# Altium integrated library Agilent Optoelectronic LED.IntLib: 357 symbols (part 5 of 6)
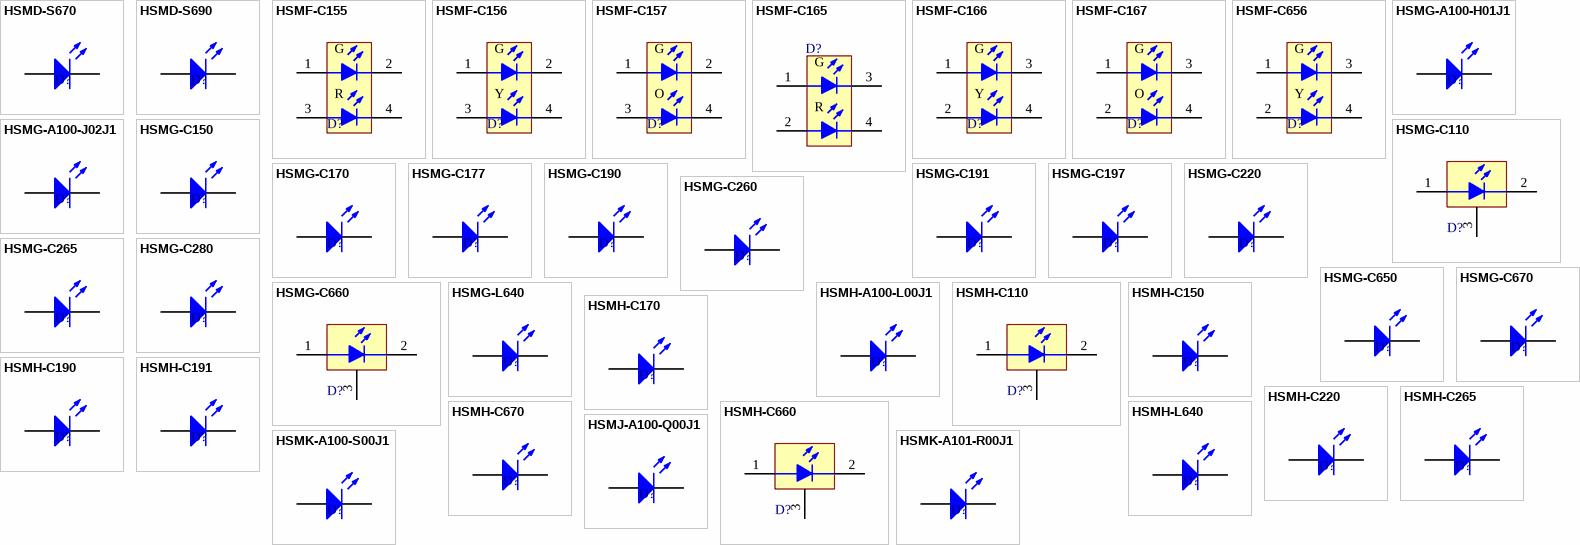
[diagram p12: symbols HSMD-S670 to HSMK-A101-R00J1]

## HSMH-C660
designator D?
Right Angle SMT Chip LED, Red; LuminousIntensity: 6.3mcd (Minimum).; PCB_Layout: Complies with manufacturer's recommendation.; Published: 11-Dec-2002; DatasheetDocument: 19-Oct-2001; PackageDocument: 29-Oct-2001; PackageReference: 3.0X1.0X2.0W; Publisher: Altium Limited; LED_Colour: Red; ComponentLink1Description: Manufacturer Link; ComponentLink1URL: http://www.agilent.com/; ComponentLink2Description: Datasheet; ComponentLink2URL: http://cp.literature.agilent.com/litweb/pdf/5988-4446EN.pdf
footprint 3.0X1.0X2.0W (SM Right-Angle Mount LED; 3 Leads; Body 3.0 x 1.0 x 2.0 mm (LxWxH))
simulation model Agl_HSMHC660 (Diode)
pins: 1 A, 2 K, 3 Mount

## HSMH-C670
designator D?
SMT Top Mount Chip LED, Red; LuminousIntensity: 6.3mcd (Minimum).; PCB_Layout: Complies with manufacturer's recommendation.; Published: 11-Dec-2002; DatasheetDocument: 1-May-2002; PackageDocument: 01-May-2002; PackageReference: 2.0X1.25X1.1; Publisher: Altium Limited; LED_Colour: Red; ComponentLink1Description: Manufacturer Link; ComponentLink1URL: http://www.agilent.com/; ComponentLink2Description: Datasheet; ComponentLink2URL: http://cp.literature.agilent.com/litweb/pdf/5988-2709EN.pdf
footprint 2.0X1.25X1.1 (SM LED; 2 Flat Leads)
simulation model Agl_HSMHC650 (Diode)
signal-integrity model LED
pins: 1 A, 2 K

## HSMH-L640
designator D?
SMT Top Mount Chip LED, Red; LuminousIntensity: 10mcd (Minimum).; PCB_Layout: Complies with manufacturer's recommendation.; Published: 11-Dec-2002; DatasheetDocument: 3-May-2002; PackageDocument: 03-May-2002; PackageReference: 3.0X1.5X1.5; Publisher: Altium Limited; LED_Colour: Red; ComponentLink1Description: Manufacturer Link; ComponentLink1URL: http://www.agilent.com/; ComponentLink2Description: Datasheet; ComponentLink2URL: http://cp.literature.agilent.com/litweb/pdf/5988-6273EN.pdf
footprint 3.0X1.5X1.5 (SM LED; 2 Flat Leads)
simulation model Agl_HSMHC660 (Diode)
signal-integrity model LED
pins: 1 A, 2 K

## HSMJ-A100-Q00J1
designator D?
Surface Mount LED Indicator (Red/Orange); LuminousIntensity: 63mcd (Minimum).; LED_Colour: Red & Orange; PCB_Layout: Complies with manufacturer's recommendation.; Published: 11-Dec-2002; DatasheetDocument: 16-Apr-2002; PackageDocument: 16-Apr-2002; PackageReference: 3.5X2.8X1.9; Publisher: Altium Limited; ComponentLink1Description: Manufacturer Link; ComponentLink1URL: http://www.agilent.com/; ComponentLink2Description: Datasheet; ComponentLink2URL: http://cp.literature.agilent.com/litweb/pdf/5988-6546EN.pdf
footprint 3.5X2.8X1.9 (SM LED; 2 C-Bend Leads; Body 3.5 x 2.8 x 1.9 mm, inc leads (LxWxH typ))
simulation model Agl_HSMAC191 (Diode)
signal-integrity model LED
pins: 1 A, 2 K

## HSMK-A100-S00J1
designator D?
Surface Mount LED Indicator, Cyan; LuminousIntensity: 160mcd (Minimum).; PCB_Layout: Complies with manufacturer's recommendation.; Published: 11-Dec-2002; DatasheetDocument: 16-Apr-2002; PackageDocument: 16-Apr-2002; PackageReference: 3.5X2.8X1.9; Publisher: Altium Limited; LED_Colour: Cyan; ComponentLink1Description: Manufacturer Link; ComponentLink1URL: http://www.agilent.com/; ComponentLink2Description: Datasheet; ComponentLink2URL: http://cp.literature.agilent.com/litweb/pdf/5988-6546EN.pdf
footprint 3.5X2.8X1.9 (SM LED; 2 C-Bend Leads; Body 3.5 x 2.8 x 1.9 mm, inc leads (LxWxH typ))
simulation model Agl_HSMKA100 (Diode)
signal-integrity model LED
pins: 1 A, 2 K

## HSMK-A101-R00J1
designator D?
Surface Mount LED Indicator, Cyan; LuminousIntensity: 100mcd (Minimum).; PCB_Layout: Complies with manufacturer's recommendation.; Published: 11-Dec-2002; DatasheetDocument: 16-Apr-2002; PackageDocument: 16-Apr-2002; PackageReference: 3.5X2.8X1.9; Publisher: Altium Limited; LED_Colour: Cyan; ComponentLink1Description: Manufacturer Link; ComponentLink1URL: http://www.agilent.com/; ComponentLink2Description: Datasheet; ComponentLink2URL: http://cp.literature.agilent.com/litweb/pdf/5988-6546EN.pdf
footprint 3.5X2.8X1.9 (SM LED; 2 C-Bend Leads; Body 3.5 x 2.8 x 1.9 mm, inc leads (LxWxH typ))
simulation model Agl_HSMKA100 (Diode)
signal-integrity model LED
pins: 1 A, 2 K

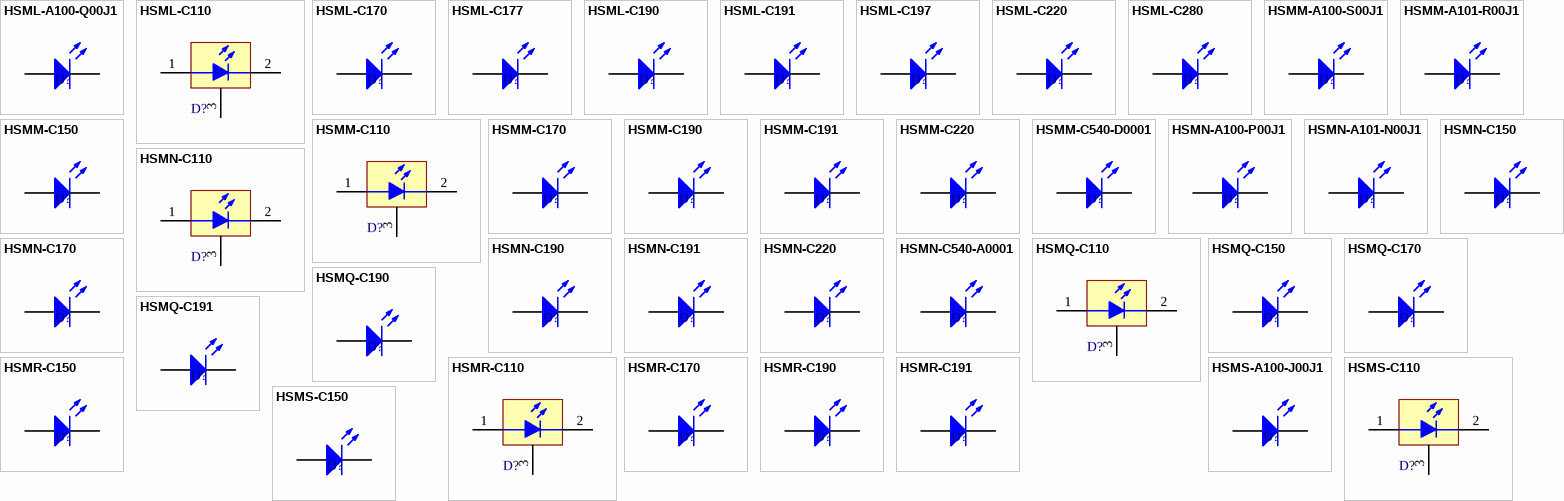
[diagram p7: symbols HSML-A100-Q00J1 to HSMS-C150]

## HSML-A100-Q00J1
designator D?
Surface Mount LED Indicator, Orange; LuminousIntensity: 63mcd (Minimum).; PCB_Layout: Complies with manufacturer's recommendation.; Published: 11-Dec-2002; DatasheetDocument: 16-Apr-2002; PackageDocument: 16-Apr-2002; PackageReference: 3.5X2.8X1.9; Publisher: Altium Limited; LED_Colour: Orange; ComponentLink1Description: Manufacturer Link; ComponentLink1URL: http://www.agilent.com/; ComponentLink2Description: Datasheet; ComponentLink2URL: http://cp.literature.agilent.com/litweb/pdf/5988-6546EN.pdf
footprint 3.5X2.8X1.9 (SM LED; 2 C-Bend Leads; Body 3.5 x 2.8 x 1.9 mm, inc leads (LxWxH typ))
simulation model Agl_HSMAC191 (Diode)
signal-integrity model LED
pins: 1 A, 2 K

## HSML-C110
designator D?
High Performance Chip LED, Orange; LuminousIntensity: 25mcd (Minimum).; PCB_Layout: Complies with manufacturer's recommendation.; Published: 11-Dec-2002; DatasheetDocument: 11-Mar-2002; PackageDocument: 11-Mar-2002; PackageReference: 3.2X1.0X1.5; Publisher: Altium Limited; LED_Colour: Orange; ComponentLink1Description: Manufacturer Link; ComponentLink1URL: http://www.agilent.com/; ComponentLink2Description: Datasheet; ComponentLink2URL: http://cp.literature.agilent.com/litweb/pdf/5988-5891EN.pdf
footprint 3.2X1.0X1.5 (SM Right-Angle Mount LED; 3 Leads; Body 3.2 x 1.0 x 1.5 mm (LxWxH))
simulation model Agl_HSMAC191 (Diode)
pins: 1 A, 2 K, 3 Mount

## HSML-C170
designator D?
High Performance Chip LED, Orange; LuminousIntensity: 25mcd (Minimum).; PCB_Layout: Complies with manufacturer's recommendation.; Published: 11-Dec-2002; DatasheetDocument: 11-Mar-2002; PackageDocument: 29-Oct-2001; PackageReference: 2.0X1.25X0.8; Publisher: Altium Limited; LED_Colour: Orange; ComponentLink1Description: Manufacturer Link; ComponentLink1URL: http://www.agilent.com/; ComponentLink2Description: Datasheet; ComponentLink2URL: http://cp.literature.agilent.com/litweb/pdf/5988-5891EN.pdf
footprint 2.0X1.25X0.8 (SM LED; 2 Flat Leads)
simulation model Agl_HSMAC191 (Diode)
signal-integrity model LED
pins: 1 A, 2 K

## HSML-C177
designator D?
Low Profile Chip LED, Orange; LuminousIntensity: 25mcd (Minimum).; PCB_Layout: Complies with manufacturer's recommendation.; Published: 11-Dec-2002; DatasheetDocument: 27-Jan-2002; PackageDocument: 27-Jan-2002; PackageReference: 2.0X1.25X0.4; Publisher: Altium Limited; LED_Colour: Orange; ComponentLink1Description: Manufacturer Link; ComponentLink1URL: http://www.agilent.com/; ComponentLink2Description: Datasheet; ComponentLink2URL: http://cp.literature.agilent.com/litweb/pdf/5988-5501EN.pdf
footprint 2.0X1.25X0.4 (SM LED; 2 Flat Leads)
simulation model Agl_HSMLC177 (Diode)
signal-integrity model LED
pins: 1 A, 2 K

## HSML-C190
designator D?
High Performance Chip LED, Orange; LuminousIntensity: 25mcd (Minimum).; PCB_Layout: Complies with manufacturer's recommendation.; Published: 11-Dec-2002; DatasheetDocument: 11-Mar-2002; PackageDocument: 11-Mar-2002; PackageReference: 1.6X0.8X0.8; Publisher: Altium Limited; LED_Colour: Orange; ComponentLink1Description: Manufacturer Link; ComponentLink1URL: http://www.agilent.com/; ComponentLink2Description: Datasheet; ComponentLink2URL: http://cp.literature.agilent.com/litweb/pdf/5988-5891EN.pdf
footprint 1.6X0.8X0.8 (SM LED; 2 Flat Leads)
simulation model Agl_HSMAC191 (Diode)
signal-integrity model LED
pins: 1 A, 2 K

## HSML-C191
designator D?
High Performance Chip LED, Orange; LuminousIntensity: 25mcd (Minimum).; PCB_Layout: Complies with manufacturer's recommendation.; Published: 11-Dec-2002; DatasheetDocument: 11-Mar-2002; PackageDocument: 11-Mar-2002; PackageReference: 1.6X0.8X0.6; Publisher: Altium Limited; LED_Colour: Orange; ComponentLink1Description: Manufacturer Link; ComponentLink1URL: http://www.agilent.com/; ComponentLink2Description: Datasheet; ComponentLink2URL: http://cp.literature.agilent.com/litweb/pdf/5988-5891EN.pdf
footprint 1.6X0.8X0.6 (SM LED; 2 Flat Leads)
simulation model Agl_HSMAC191 (Diode)
signal-integrity model LED
pins: 1 A, 2 K

## HSML-C197
designator D?
Low Profile Chip LED, Orange; LuminousIntensity: 25mcd (Minimum).; PCB_Layout: Complies with manufacturer's recommendation.; Published: 11-Dec-2002; DatasheetDocument: 27-Jan-2002; PackageDocument: 27-Jan-2002; PackageReference: 1.6X0.8X0.4; Publisher: Altium Limited; LED_Colour: Orange; ComponentLink1Description: Manufacturer Link; ComponentLink1URL: http://www.agilent.com/; ComponentLink2Description: Datasheet; ComponentLink2URL: http://cp.literature.agilent.com/litweb/pdf/5988-5501EN.pdf
footprint 1.6X0.8X0.4 (SM LED; 2 Flat Leads)
simulation model Agl_HSMLC177 (Diode)
signal-integrity model LED
pins: 1 A, 2 K

## HSML-C220
designator D?
High Performance Chip LED, Orange; LuminousIntensity: 63mcd (Minimum).; PCB_Layout: Complies with manufacturer's recommendation.; Published: 11-Dec-2002; DatasheetDocument: 30-Apr-2002; PackageDocument: 30-Apr-2002; PackageReference: 2.0X1.25X1.2; Publisher: Altium Limited; LED_Colour: Orange; ComponentLink1Description: Manufacturer Link; ComponentLink1URL: http://www.agilent.com/; ComponentLink2Description: Datasheet; ComponentLink2URL: http://cp.literature.agilent.com/litweb/pdf/5988-6549EN.pdf
footprint 2.0X1.25X1.2 (SM LED; 2 Flat Leads)
simulation model Agl_HSMLC220 (Diode)
signal-integrity model LED
pins: 1 A, 2 K

## HSML-C280
designator D?
Miniature Chip LED, Orange; LuminousIntensity: 25mcd (Minimum).; PCB_Layout: Complies with manufacturer's recommendation.; Published: 11-Dec-2002; DatasheetDocument: 7-Mar-2002; PackageDocument: 07-Mar-2002; PackageReference: 1.0X0.5X0.4; Publisher: Altium Limited; LED_Colour: Orange; ComponentLink1Description: Manufacturer Link; ComponentLink1URL: http://www.agilent.com/; ComponentLink2Description: Datasheet; ComponentLink2URL: http://cp.literature.agilent.com/litweb/pdf/5988-5890EN.pdf
footprint 1.0X0.5X0.4 (SM LED; 2 Flat Leads)
simulation model Agl_HSMLC177 (Diode)
signal-integrity model LED
pins: 1 A, 2 K

## HSMM-A100-S00J1
designator D?
Surface Mount LED Indicator, Green; LuminousIntensity: 160mcd (Minimum).; PCB_Layout: Complies with manufacturer's recommendation.; Published: 11-Dec-2002; DatasheetDocument: 16-Apr-2002; PackageDocument: 16-Apr-2002; PackageReference: 3.5X2.8X1.9; Publisher: Altium Limited; LED_Colour: Green; ComponentLink1Description: Manufacturer Link; ComponentLink1URL: http://www.agilent.com/; ComponentLink2Description: Datasheet; ComponentLink2URL: http://cp.literature.agilent.com/litweb/pdf/5988-6546EN.pdf
footprint 3.5X2.8X1.9 (SM LED; 2 C-Bend Leads; Body 3.5 x 2.8 x 1.9 mm, inc leads (LxWxH typ))
simulation model Agl_HSMKA100 (Diode)
signal-integrity model LED
pins: 1 A, 2 K

## HSMM-A101-R00J1
designator D?
Surface Mount LED Indicator, Green; LuminousIntensity: 100mcd (Minimum).; PCB_Layout: Complies with manufacturer's recommendation.; Published: 11-Dec-2002; DatasheetDocument: 16-Apr-2002; PackageDocument: 16-Apr-2002; PackageReference: 3.5X2.8X1.9; Publisher: Altium Limited; LED_Colour: Green; ComponentLink1Description: Manufacturer Link; ComponentLink1URL: http://www.agilent.com/; ComponentLink2Description: Datasheet; ComponentLink2URL: http://cp.literature.agilent.com/litweb/pdf/5988-6546EN.pdf
footprint 3.5X2.8X1.9 (SM LED; 2 C-Bend Leads; Body 3.5 x 2.8 x 1.9 mm, inc leads (LxWxH typ))
simulation model Agl_HSMKA100 (Diode)
signal-integrity model LED
pins: 1 A, 2 K

## HSMM-C110
designator D?
High Performance SMT Chip LED, Green; LuminousIntensity: 40mcd (Minimum).; PCB_Layout: Complies with manufacturer's recommendation.; Published: 11-Dec-2002; DatasheetDocument: 11-Mar-2002; PackageDocument: 11-Mar-2002; PackageReference: 3.2X1.0X1.5; Publisher: Altium Limited; LED_Colour: Green; ComponentLink1Description: Manufacturer Link; ComponentLink1URL: http://www.agilent.com/; ComponentLink2Description: Datasheet; ComponentLink2URL: http://cp.literature.agilent.com/litweb/pdf/5988-5213EN.pdf
footprint 3.2X1.0X1.5 (SM Right-Angle Mount LED; 3 Leads; Body 3.2 x 1.0 x 1.5 mm (LxWxH))
simulation model Agl_HSMMC110 (Diode)
pins: 1 A, 2 K, 3 Mount

## HSMM-C150
designator D?
High Performance SMT Chip LED, Green; LuminousIntensity: 40mcd (Minimum).; PCB_Layout: Complies with manufacturer's recommendation.; Published: 11-Dec-2002; DatasheetDocument: 11-Mar-2002; PackageDocument: 26-Feb-2002; PackageReference: 3.2X1.6X1.1; Publisher: Altium Limited; LED_Colour: Green; ComponentLink1Description: Manufacturer Link; ComponentLink1URL: http://www.agilent.com/; ComponentLink2Description: Datasheet; ComponentLink2URL: http://cp.literature.agilent.com/litweb/pdf/5988-5213EN.pdf
footprint 3.2X1.6X1.1 (SM LED; 2 Flat Leads)
simulation model Agl_HSMMC110 (Diode)
signal-integrity model LED
pins: 1 A, 2 K

## HSMM-C170
designator D?
High Performance SMT Chip LED, Green; LuminousIntensity: 40mcd (Minimum).; PCB_Layout: Complies with manufacturer's recommendation.; Published: 11-Dec-2002; DatasheetDocument: 11-Mar-2002; PackageDocument: 29-Oct-2001; PackageReference: 2.0X1.25X0.8; Publisher: Altium Limited; LED_Colour: Green; ComponentLink1Description: Manufacturer Link; ComponentLink1URL: http://www.agilent.com/; ComponentLink2Description: Datasheet; ComponentLink2URL: http://cp.literature.agilent.com/litweb/pdf/5988-5213EN.pdf
footprint 2.0X1.25X0.8 (SM LED; 2 Flat Leads)
simulation model Agl_HSMMC110 (Diode)
signal-integrity model LED
pins: 1 A, 2 K

## HSMM-C190
designator D?
High Performance SMT Chip LED, Green; LuminousIntensity: 40mcd (Minimum).; PCB_Layout: Complies with manufacturer's recommendation.; Published: 11-Dec-2002; DatasheetDocument: 11-Mar-2002; PackageDocument: 11-Mar-2002; PackageReference: 1.6X0.8X0.8; Publisher: Altium Limited; LED_Colour: Green; ComponentLink1Description: Manufacturer Link; ComponentLink1URL: http://www.agilent.com/; ComponentLink2Description: Datasheet; ComponentLink2URL: http://cp.literature.agilent.com/litweb/pdf/5988-5213EN.pdf
footprint 1.6X0.8X0.8 (SM LED; 2 Flat Leads)
simulation model Agl_HSMMC110 (Diode)
signal-integrity model LED
pins: 1 A, 2 K

## HSMM-C191
designator D?
High Performance SMT Chip LED, Green; LuminousIntensity: 40mcd (Minimum).; PCB_Layout: Complies with manufacturer's recommendation.; Published: 11-Dec-2002; DatasheetDocument: 11-Mar-2002; PackageDocument: 11-Mar-2002; PackageReference: 1.6X0.8X0.6; Publisher: Altium Limited; LED_Colour: Green; ComponentLink1Description: Manufacturer Link; ComponentLink1URL: http://www.agilent.com/; ComponentLink2Description: Datasheet; ComponentLink2URL: http://cp.literature.agilent.com/litweb/pdf/5988-5213EN.pdf
footprint 1.6X0.8X0.6 (SM LED; 2 Flat Leads)
simulation model Agl_HSMMC110 (Diode)
signal-integrity model LED
pins: 1 A, 2 K

## HSMM-C220
designator D?
High Performance Chip LED, Green; LuminousIntensity: 63mcd (Minimum).; PCB_Layout: Complies with manufacturer's recommendation.; Published: 11-Dec-2002; DatasheetDocument: 30-Apr-2002; PackageDocument: 30-Apr-2002; PackageReference: 2.0X1.25X1.2; Publisher: Altium Limited; LED_Colour: Green; ComponentLink1Description: Manufacturer Link; ComponentLink1URL: http://www.agilent.com/; ComponentLink2Description: Datasheet; ComponentLink2URL: http://cp.literature.agilent.com/litweb/pdf/5988-6549EN.pdf
footprint 2.0X1.25X1.2 (SM LED; 2 Flat Leads)
simulation model Agl_HSMMC220 (Diode)
signal-integrity model LED
pins: 1 A, 2 K

## HSMM-C540-D0001
designator D?
Top Mount InGaN Green Oval Lens High Brightness; LuminousIntensity: 57mcd (Minimum).; PCB_Layout: Complies with manufacturer's recommendation.; Published: 11-Dec-2002; DatasheetDocument: 7-Mar-2002; PackageDocument: 30-Apr-2002; PackageReference: 2.0X1.25X1.2; Publisher: Altium Limited; LED_Colour: Green; ComponentLink1Description: Manufacturer Link; ComponentLink1URL: http://www.agilent.com/; ComponentLink2Description: Datasheet; ComponentLink2URL: http://cp.literature.agilent.com/litweb/pdf/5988-5794EN.pdf
footprint 2.0X1.25X1.2 (SM LED; 2 Flat Leads)
simulation model Agl_HSMMC540 (Diode)
signal-integrity model LED
pins: 1 A, 2 K

## HSMN-A100-P00J1
designator D?
Surface Mount LED Indicator, Blue; LuminousIntensity: 40mcd (Minimum).; PCB_Layout: Complies with manufacturer's recommendation.; Published: 11-Dec-2002; DatasheetDocument: 16-Apr-2002; PackageDocument: 16-Apr-2002; PackageReference: 3.5X2.8X1.9; Publisher: Altium Limited; LED_Colour: Blue; ComponentLink1Description: Manufacturer Link; ComponentLink1URL: http://www.agilent.com/; ComponentLink2Description: Datasheet; ComponentLink2URL: http://cp.literature.agilent.com/litweb/pdf/5988-6546EN.pdf
footprint 3.5X2.8X1.9 (SM LED; 2 C-Bend Leads; Body 3.5 x 2.8 x 1.9 mm, inc leads (LxWxH typ))
simulation model Agl_HSMKA100 (Diode)
signal-integrity model LED
pins: 1 A, 2 K

## HSMN-A101-N00J1
designator D?
Surface Mount LED Indicator, Blue; LuminousIntensity: 25mcd (Minimum).; PCB_Layout: Complies with manufacturer's recommendation.; Published: 11-Dec-2002; DatasheetDocument: 16-Apr-2002; PackageDocument: 16-Apr-2002; PackageReference: 3.5X2.8X1.9; Publisher: Altium Limited; LED_Colour: Blue; ComponentLink1Description: Manufacturer Link; ComponentLink1URL: http://www.agilent.com/; ComponentLink2Description: Datasheet; ComponentLink2URL: http://cp.literature.agilent.com/litweb/pdf/5988-6546EN.pdf
footprint 3.5X2.8X1.9 (SM LED; 2 C-Bend Leads; Body 3.5 x 2.8 x 1.9 mm, inc leads (LxWxH typ))
simulation model Agl_HSMKA100 (Diode)
signal-integrity model LED
pins: 1 A, 2 K

## HSMN-C110
designator D?
High Performance SMT Chip LED, Blue; LuminousIntensity: 10mcd (Minimum).; PCB_Layout: Complies with manufacturer's recommendation.; Published: 11-Dec-2002; DatasheetDocument: 11-Mar-2002; PackageDocument: 11-Mar-2002; PackageReference: 3.2X1.0X1.5; Publisher: Altium Limited; LED_Colour: Blue; ComponentLink1Description: Manufacturer Link; ComponentLink1URL: http://www.agilent.com/; ComponentLink2Description: Datasheet; ComponentLink2URL: http://cp.literature.agilent.com/litweb/pdf/5988-5213EN.pdf
footprint 3.2X1.0X1.5 (SM Right-Angle Mount LED; 3 Leads; Body 3.2 x 1.0 x 1.5 mm (LxWxH))
simulation model Agl_HSMMC110 (Diode)
pins: 1 A, 2 K, 3 Mount

## HSMN-C150
designator D?
High Performance SMT Chip LED, Blue; LuminousIntensity: 10mcd (Minimum).; PCB_Layout: Complies with manufacturer's recommendation.; Published: 11-Dec-2002; DatasheetDocument: 11-Mar-2002; PackageDocument: 26-Feb-2002; PackageReference: 3.2X1.6X1.1; Publisher: Altium Limited; LED_Colour: Blue; ComponentLink1Description: Manufacturer Link; ComponentLink1URL: http://www.agilent.com/; ComponentLink2Description: Datasheet; ComponentLink2URL: http://cp.literature.agilent.com/litweb/pdf/5988-5213EN.pdf
footprint 3.2X1.6X1.1 (SM LED; 2 Flat Leads)
simulation model Agl_HSMMC110 (Diode)
signal-integrity model LED
pins: 1 A, 2 K

## HSMN-C170
designator D?
High Performance SMT Chip LED, Blue; LuminousIntensity: 10mcd (Minimum).; PCB_Layout: Complies with manufacturer's recommendation.; Published: 11-Dec-2002; DatasheetDocument: 11-Mar-2002; PackageDocument: 29-Oct-2001; PackageReference: 2.0X1.25X0.8; Publisher: Altium Limited; LED_Colour: Blue; ComponentLink1Description: Manufacturer Link; ComponentLink1URL: http://www.agilent.com/; ComponentLink2Description: Datasheet; ComponentLink2URL: http://cp.literature.agilent.com/litweb/pdf/5988-5213EN.pdf
footprint 2.0X1.25X0.8 (SM LED; 2 Flat Leads)
simulation model Agl_HSMMC110 (Diode)
signal-integrity model LED
pins: 1 A, 2 K

## HSMN-C190
designator D?
High Performance SMT Chip LED, Blue; LuminousIntensity: 10mcd (Minimum).; PCB_Layout: Complies with manufacturer's recommendation.; Published: 11-Dec-2002; DatasheetDocument: 11-Mar-2002; PackageDocument: 11-Mar-2002; PackageReference: 1.6X0.8X0.8; Publisher: Altium Limited; LED_Colour: Blue; ComponentLink1Description: Manufacturer Link; ComponentLink1URL: http://www.agilent.com/; ComponentLink2Description: Datasheet; ComponentLink2URL: http://cp.literature.agilent.com/litweb/pdf/5988-5213EN.pdf
footprint 1.6X0.8X0.8 (SM LED; 2 Flat Leads)
simulation model Agl_HSMMC110 (Diode)
signal-integrity model LED
pins: 1 A, 2 K

## HSMN-C191
designator D?
High Performance SMT Chip LED, Blue; LuminousIntensity: 10mcd (Minimum).; PCB_Layout: Complies with manufacturer's recommendation.; Published: 11-Dec-2002; DatasheetDocument: 11-Mar-2002; PackageDocument: 11-Mar-2002; PackageReference: 1.6X0.8X0.6; Publisher: Altium Limited; LED_Colour: Blue; ComponentLink1Description: Manufacturer Link; ComponentLink1URL: http://www.agilent.com/; ComponentLink2Description: Datasheet; ComponentLink2URL: http://cp.literature.agilent.com/litweb/pdf/5988-5213EN.pdf
footprint 1.6X0.8X0.6 (SM LED; 2 Flat Leads)
simulation model Agl_HSMMC110 (Diode)
signal-integrity model LED
pins: 1 A, 2 K

## HSMN-C220
designator D?
High Performance Chip LED, Blue; LuminousIntensity: 25mcd (Minimum).; PCB_Layout: Complies with manufacturer's recommendation.; Published: 11-Dec-2002; DatasheetDocument: 30-Apr-2002; PackageDocument: 30-Apr-2002; PackageReference: 2.0X1.25X1.2; Publisher: Altium Limited; LED_Colour: Blue; ComponentLink1Description: Manufacturer Link; ComponentLink1URL: http://www.agilent.com/; ComponentLink2Description: Datasheet; ComponentLink2URL: http://cp.literature.agilent.com/litweb/pdf/5988-6549EN.pdf
footprint 2.0X1.25X1.2 (SM LED; 2 Flat Leads)
simulation model Agl_HSMNC220 (Diode)
signal-integrity model LED
pins: 1 A, 2 K

## HSMN-C540-A0001
designator D?
Top Mount InGaN Blue Oval Lens High Brightness; LuminousIntensity: 26mcd (Minimum).; PCB_Layout: Complies with manufacturer's recommendation.; Published: 11-Dec-2002; DatasheetDocument: 7-Mar-2002; PackageDocument: 30-Apr-2002; PackageReference: 2.0X1.25X1.2; Publisher: Altium Limited; LED_Colour: Blue; ComponentLink1Description: Manufacturer Link; ComponentLink1URL: http://www.agilent.com/; ComponentLink2Description: Datasheet; ComponentLink2URL: http://cp.literature.agilent.com/litweb/pdf/5988-5794EN.pdf
footprint 2.0X1.25X1.2 (SM LED; 2 Flat Leads)
simulation model Agl_HSMMC540 (Diode)
signal-integrity model LED
pins: 1 A, 2 K

## HSMQ-C110
designator D?
Right Angle SMT Chip LED, Green; LuminousIntensity: 40mcd (Minimum).; PCB_Layout: Complies with manufacturer's recommendation.; Published: 11-Dec-2002; DatasheetDocument: 6-Apr-2002; PackageDocument: 11-Mar-2002; PackageReference: 3.2X1.0X1.5; Publisher: Altium Limited; LED_Colour: Green; ComponentLink1Description: Manufacturer Link; ComponentLink1URL: http://www.agilent.com/; ComponentLink2Description: Datasheet; ComponentLink2URL: http://cp.literature.agilent.com/litweb/pdf/5988-4832EN.pdf
footprint 3.2X1.0X1.5 (SM Right-Angle Mount LED; 3 Leads; Body 3.2 x 1.0 x 1.5 mm (LxWxH))
simulation model Agl_HSMQC110 (Diode)
pins: 1 A, 2 K, 3 Mount

## HSMQ-C150
designator D?
SMT Top Mount Chip LED, Green; LuminousIntensity: 40mcd (Minimum).; PCB_Layout: Complies with manufacturer's recommendation.; Published: 11-Dec-2002; DatasheetDocument: 6-Apr-2002; PackageDocument: 26-Feb-2002; PackageReference: 3.2X1.6X1.1; Publisher: Altium Limited; LED_Colour: Green; ComponentLink1Description: Manufacturer Link; ComponentLink1URL: http://www.agilent.com/; ComponentLink2Description: Datasheet; ComponentLink2URL: http://cp.literature.agilent.com/litweb/pdf/5988-4832EN.pdf
footprint 3.2X1.6X1.1 (SM LED; 2 Flat Leads)
simulation model Agl_HSMQC110 (Diode)
signal-integrity model LED
pins: 1 A, 2 K

## HSMQ-C170
designator D?
SMT Top Mount Chip LED, Green; LuminousIntensity: 40mcd (Minimum).; PCB_Layout: Complies with manufacturer's recommendation.; Published: 11-Dec-2002; DatasheetDocument: 6-Apr-2002; PackageDocument: 29-Oct-2001; PackageReference: 2.0X1.25X0.8; Publisher: Altium Limited; LED_Colour: Green; ComponentLink1Description: Manufacturer Link; ComponentLink1URL: http://www.agilent.com/; ComponentLink2Description: Datasheet; ComponentLink2URL: http://cp.literature.agilent.com/litweb/pdf/5988-4832EN.pdf
footprint 2.0X1.25X0.8 (SM LED; 2 Flat Leads)
simulation model Agl_HSMQC170 (Diode)
signal-integrity model LED
pins: 1 A, 2 K

## HSMQ-C190
designator D?
SMT Top Mount Chip LED, Green; LuminousIntensity: 40mcd (Minimum).; PCB_Layout: Complies with manufacturer's recommendation.; Published: 11-Dec-2002; DatasheetDocument: 6-Apr-2002; PackageDocument: 11-Mar-2002; PackageReference: 1.6X0.8X0.8; Publisher: Altium Limited; LED_Colour: Green; ComponentLink1Description: Manufacturer Link; ComponentLink1URL: http://www.agilent.com/; ComponentLink2Description: Datasheet; ComponentLink2URL: http://cp.literature.agilent.com/litweb/pdf/5988-4832EN.pdf
footprint 1.6X0.8X0.8 (SM LED; 2 Flat Leads)
simulation model Agl_HSMQC170 (Diode)
signal-integrity model LED
pins: 1 A, 2 K

## HSMQ-C191
designator D?
Top Mount Low Profile Chip LED, Green; LuminousIntensity: 40mcd (Minimum).; PCB_Layout: Complies with manufacturer's recommendation.; Published: 11-Dec-2002; DatasheetDocument: 6-Apr-2002; PackageDocument: 11-Mar-2002; PackageReference: 1.6X0.8X0.6; Publisher: Altium Limited; LED_Colour: Green; ComponentLink1Description: Manufacturer Link; ComponentLink1URL: http://www.agilent.com/; ComponentLink2Description: Datasheet; ComponentLink2URL: http://cp.literature.agilent.com/litweb/pdf/5988-4832EN.pdf
footprint 1.6X0.8X0.6 (SM LED; 2 Flat Leads)
simulation model Agl_HSMQC170 (Diode)
signal-integrity model LED
pins: 1 A, 2 K

## HSMR-C110
designator D?
Right Angle SMT Chip LED, Blue; LuminousIntensity: 16mcd (Minimum).; PCB_Layout: Complies with manufacturer's recommendation.; Published: 11-Dec-2002; DatasheetDocument: 6-Apr-2002; PackageDocument: 11-Mar-2002; PackageReference: 3.2X1.0X1.5; Publisher: Altium Limited; LED_Colour: Blue; ComponentLink1Description: Manufacturer Link; ComponentLink1URL: http://www.agilent.com/; ComponentLink2Description: Datasheet; ComponentLink2URL: http://cp.literature.agilent.com/litweb/pdf/5988-4832EN.pdf
footprint 3.2X1.0X1.5 (SM Right-Angle Mount LED; 3 Leads; Body 3.2 x 1.0 x 1.5 mm (LxWxH))
simulation model Agl_HSMQC110 (Diode)
pins: 1 A, 2 K, 3 Mount

## HSMR-C150
designator D?
SMT Top Mount Chip LED, Blue; LuminousIntensity: 16mcd (Minimum).; PCB_Layout: Complies with manufacturer's recommendation.; Published: 11-Dec-2002; DatasheetDocument: 6-Apr-2002; PackageDocument: 26-Feb-2002; PackageReference: 3.2X1.6X1.1; Publisher: Altium Limited; LED_Colour: Blue; ComponentLink1Description: Manufacturer Link; ComponentLink1URL: http://www.agilent.com/; ComponentLink2Description: Datasheet; ComponentLink2URL: http://cp.literature.agilent.com/litweb/pdf/5988-4832EN.pdf
footprint 3.2X1.6X1.1 (SM LED; 2 Flat Leads)
simulation model Agl_HSMQC110 (Diode)
signal-integrity model LED
pins: 1 A, 2 K

## HSMR-C170
designator D?
SMT Top Mount Chip LED, Blue; LuminousIntensity: 16mcd (Minimum).; PCB_Layout: Complies with manufacturer's recommendation.; Published: 11-Dec-2002; DatasheetDocument: 6-Apr-2002; PackageDocument: 29-Oct-2001; PackageReference: 2.0X1.25X0.8; Publisher: Altium Limited; LED_Colour: Blue; ComponentLink1Description: Manufacturer Link; ComponentLink1URL: http://www.agilent.com/; ComponentLink2Description: Datasheet; ComponentLink2URL: http://cp.literature.agilent.com/litweb/pdf/5988-4832EN.pdf
footprint 2.0X1.25X0.8 (SM LED; 2 Flat Leads)
simulation model Agl_HSMQC170 (Diode)
signal-integrity model LED
pins: 1 A, 2 K

## HSMR-C190
designator D?
SMT Top Mount Chip LED, Blue; LuminousIntensity: 16mcd (Minimum).; PCB_Layout: Complies with manufacturer's recommendation.; Published: 11-Dec-2002; DatasheetDocument: 6-Apr-2002; PackageDocument: 11-Mar-2002; PackageReference: 1.6X0.8X0.8; Publisher: Altium Limited; LED_Colour: Blue; ComponentLink1Description: Manufacturer Link; ComponentLink1URL: http://www.agilent.com/; ComponentLink2Description: Datasheet; ComponentLink2URL: http://cp.literature.agilent.com/litweb/pdf/5988-4832EN.pdf
footprint 1.6X0.8X0.8 (SM LED; 2 Flat Leads)
simulation model Agl_HSMQC170 (Diode)
signal-integrity model LED
pins: 1 A, 2 K

## HSMR-C191
designator D?
Top Mount Low Profile Chip LED, Blue; LuminousIntensity: 16mcd (Minimum).; PCB_Layout: Complies with manufacturer's recommendation.; Published: 11-Dec-2002; DatasheetDocument: 6-Apr-2002; PackageDocument: 11-Mar-2002; PackageReference: 1.6X0.8X0.6; Publisher: Altium Limited; LED_Colour: Blue; ComponentLink1Description: Manufacturer Link; ComponentLink1URL: http://www.agilent.com/; ComponentLink2Description: Datasheet; ComponentLink2URL: http://cp.literature.agilent.com/litweb/pdf/5988-4832EN.pdf
footprint 1.6X0.8X0.6 (SM LED; 2 Flat Leads)
simulation model Agl_HSMQC170 (Diode)
signal-integrity model LED
pins: 1 A, 2 K

## HSMS-A100-J00J1
designator D?
Surface Mount LED Indicator, Red; LuminousIntensity: 4mcd (Minimum).; PCB_Layout: Complies with manufacturer's recommendation.; Published: 11-Dec-2002; DatasheetDocument: 16-Apr-2002; PackageDocument: 16-Apr-2002; PackageReference: 3.5X2.8X1.9; Publisher: Altium Limited; LED_Colour: Red; ComponentLink1Description: Manufacturer Link; ComponentLink1URL: http://www.agilent.com/; ComponentLink2Description: Datasheet; ComponentLink2URL: http://cp.literature.agilent.com/litweb/pdf/5988-6546EN.pdf
footprint 3.5X2.8X1.9 (SM LED; 2 C-Bend Leads; Body 3.5 x 2.8 x 1.9 mm, inc leads (LxWxH typ))
simulation model Agl_HSMDC110 (Diode)
signal-integrity model LED
pins: 1 A, 2 K

## HSMS-C110
designator D?
Surface Mount Chip LED, Red; LuminousIntensity: 2.5mcd (Minimum).; PCB_Layout: Complies with manufacturer's recommendation.; Published: 11-Dec-2002; DatasheetDocument: 30-Apr-2002; PackageDocument: 11-Mar-2002; PackageReference: 3.2X1.0X1.5; Publisher: Altium Limited; LED_Colour: Red; ComponentLink1Description: Manufacturer Link; ComponentLink1URL: http://www.agilent.com/; ComponentLink2Description: Datasheet; ComponentLink2URL: http://cp.literature.agilent.com/litweb/pdf/5988-6271EN.pdf
footprint 3.2X1.0X1.5 (SM Right-Angle Mount LED; 3 Leads; Body 3.2 x 1.0 x 1.5 mm (LxWxH))
simulation model Agl_HSMSC110 (Diode)
pins: 1 A, 2 K, 3 Mount

## HSMS-C150
designator D?
Surface Mount Chip LED, Red; LuminousIntensity: 2.5mcd (Minimum).; PCB_Layout: Complies with manufacturer's recommendation.; Published: 11-Dec-2002; DatasheetDocument: 30-Apr-2002; PackageDocument: 26-Feb-2002; PackageReference: 3.2X1.6X1.1; Publisher: Altium Limited; LED_Colour: Red; ComponentLink1Description: Manufacturer Link; ComponentLink1URL: http://www.agilent.com/; ComponentLink2Description: Datasheet; ComponentLink2URL: http://cp.literature.agilent.com/litweb/pdf/5988-6271EN.pdf
footprint 3.2X1.6X1.1 (SM LED; 2 Flat Leads)
simulation model Agl_HSMSC110 (Diode)
signal-integrity model LED
pins: 1 A, 2 K

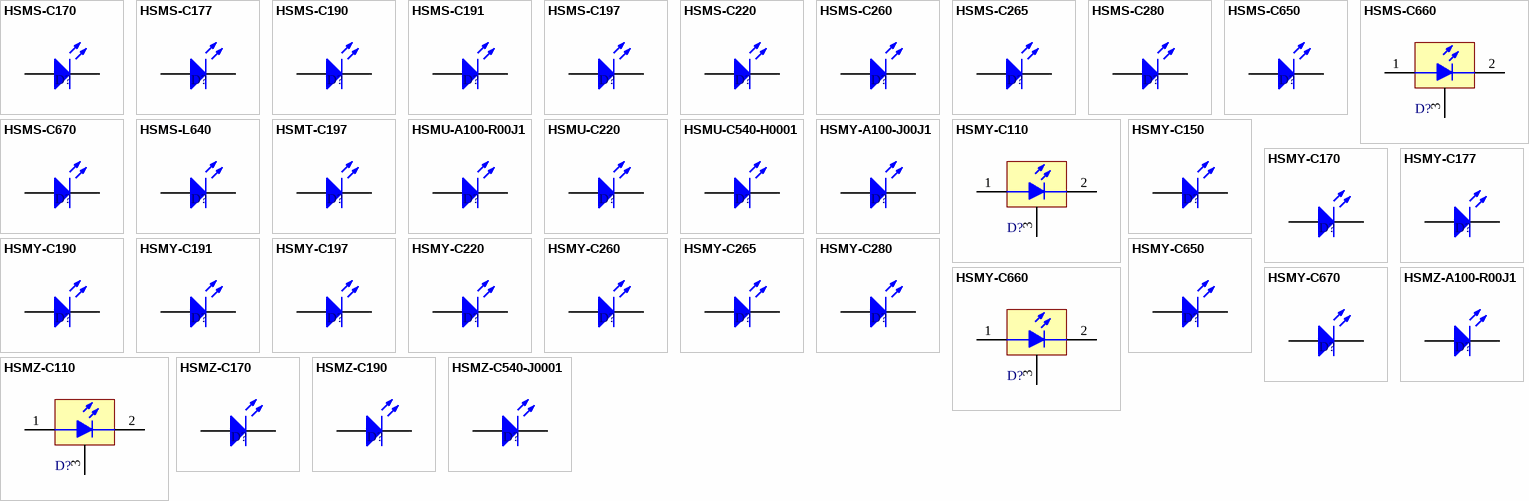
[diagram p8: symbols HSMS-C170 to HSMZ-C540-J0001]

## HSMS-C170
designator D?
Surface Mount Chip LED, Red; LuminousIntensity: 2.5mcd (Minimum).; PCB_Layout: Complies with manufacturer's recommendation.; Published: 11-Dec-2002; DatasheetDocument: 30-Apr-2002; PackageDocument: 29-Oct-2001; PackageReference: 2.0X1.25X0.8; Publisher: Altium Limited; LED_Colour: Red; ComponentLink1Description: Manufacturer Link; ComponentLink1URL: http://www.agilent.com/; ComponentLink2Description: Datasheet; ComponentLink2URL: http://cp.literature.agilent.com/litweb/pdf/5988-6271EN.pdf
footprint 2.0X1.25X0.8 (SM LED; 2 Flat Leads)
simulation model Agl_HSMSC110 (Diode)
signal-integrity model LED
pins: 1 A, 2 K

## HSMS-C177
designator D?
Low Profile Chip LED, Red; LuminousIntensity: 2.5mcd (Minimum).; PCB_Layout: Complies with manufacturer's recommendation.; Published: 11-Dec-2002; DatasheetDocument: 27-Jan-2002; PackageDocument: 27-Jan-2002; PackageReference: 2.0X1.25X0.4; Publisher: Altium Limited; LED_Colour: Red; ComponentLink1Description: Manufacturer Link; ComponentLink1URL: http://www.agilent.com/; ComponentLink2Description: Datasheet; ComponentLink2URL: http://cp.literature.agilent.com/litweb/pdf/5988-5501EN.pdf
footprint 2.0X1.25X0.4 (SM LED; 2 Flat Leads)
simulation model Agl_HSMSC110 (Diode)
signal-integrity model LED
pins: 1 A, 2 K

## HSMS-C190
designator D?
Surface Mount Chip LED, Red; LuminousIntensity: 2.5mcd (Minimum).; PCB_Layout: Complies with manufacturer's recommendation.; Published: 11-Dec-2002; DatasheetDocument: 30-Apr-2002; PackageDocument: 11-Mar-2002; PackageReference: 1.6X0.8X0.8; Publisher: Altium Limited; LED_Colour: Red; ComponentLink1Description: Manufacturer Link; ComponentLink1URL: http://www.agilent.com/; ComponentLink2Description: Datasheet; ComponentLink2URL: http://cp.literature.agilent.com/litweb/pdf/5988-6271EN.pdf
footprint 1.6X0.8X0.8 (SM LED; 2 Flat Leads)
simulation model Agl_HSMSC110 (Diode)
signal-integrity model LED
pins: 1 A, 2 K

## HSMS-C191
designator D?
Low Profile Chip LED, Red; LuminousIntensity: 2.5mcd (Minimum).; PCB_Layout: Complies with manufacturer's recommendation.; Published: 11-Dec-2002; DatasheetDocument: 16-Apr-2002; PackageDocument: 11-Mar-2002; PackageReference: 1.6X0.8X0.6; Publisher: Altium Limited; LED_Colour: Red; ComponentLink1Description: Manufacturer Link; ComponentLink1URL: http://www.agilent.com/; ComponentLink2Description: Datasheet; ComponentLink2URL: http://cp.literature.agilent.com/litweb/pdf/5988-6172EN.pdf
footprint 1.6X0.8X0.6 (SM LED; 2 Flat Leads)
simulation model Agl_HSMSC110 (Diode)
signal-integrity model LED
pins: 1 A, 2 K

## HSMS-C197
designator D?
Low Profile Chip LED, Red; LuminousIntensity: 2.5mcd (Minimum).; PCB_Layout: Complies with manufacturer's recommendation.; Published: 11-Dec-2002; DatasheetDocument: 27-Jan-2002; PackageDocument: 27-Jan-2002; PackageReference: 1.6X0.8X0.4; Publisher: Altium Limited; LED_Colour: Red; ComponentLink1Description: Manufacturer Link; ComponentLink1URL: http://www.agilent.com/; ComponentLink2Description: Datasheet; ComponentLink2URL: http://cp.literature.agilent.com/litweb/pdf/5988-5501EN.pdf
footprint 1.6X0.8X0.4 (SM LED; 2 Flat Leads)
simulation model Agl_HSMSC110 (Diode)
signal-integrity model LED
pins: 1 A, 2 K

## HSMS-C220
designator D?
High Performance Chip LED, Red; LuminousIntensity: 6.3mcd (Minimum).; PCB_Layout: Complies with manufacturer's recommendation.; Published: 11-Dec-2002; DatasheetDocument: 30-Apr-2002; PackageDocument: 30-Apr-2002; PackageReference: 2.0X1.25X1.2; Publisher: Altium Limited; LED_Colour: Red; ComponentLink1Description: Manufacturer Link; ComponentLink1URL: http://www.agilent.com/; ComponentLink2Description: Datasheet; ComponentLink2URL: http://cp.literature.agilent.com/litweb/pdf/5988-6549EN.pdf
footprint 2.0X1.25X1.2 (SM LED; 2 Flat Leads)
simulation model Agl_HSMDC650 (Diode)
signal-integrity model LED
pins: 1 A, 2 K

## HSMS-C260
designator D?
Reverse Mount Chip LED, Red; LuminousIntensity: 2.5mcd (Minimum).; PCB_Layout: Complies with manufacturer's recommendation.; DrillSize: Nominal, Rounded to nearest 0.05mm; Published: 11-Dec-2002; DatasheetDocument: 15-Apr-2002; PackageDocument: 15-Apr-2002; PackageReference: 3.4X1.25X1.1; Publisher: Altium Limited; LED_Colour: Red; ComponentLink1Description: Manufacturer Link; ComponentLink1URL: http://www.agilent.com/; ComponentLink2Description: Datasheet; ComponentLink2URL: http://cp.literature.agilent.com/litweb/pdf/5988-6269EN.pdf
footprint 3.4X1.25X1.1 (SM Reverse Mount LED; 2 Flat Leads)
simulation model Agl_HSMSC260 (Diode)
signal-integrity model LED
pins: 1 A, 2 K

## HSMS-C265
designator D?
Reverse Mount Chip LED, Red; LuminousIntensity: 2.5mcd (Minimum).; PCB_Layout: Complies with manufacturer's recommendation.; DrillSize: Nominal, Rounded to nearest 0.05mm; Published: 11-Dec-2002; DatasheetDocument: 18-Apr-2002; PackageDocument: 15-Apr-2002; PackageReference: 3.4X1.25X1.1; Publisher: Altium Limited; LED_Colour: Red; ComponentLink1Description: Manufacturer Link; ComponentLink1URL: http://www.agilent.com/; ComponentLink2Description: Datasheet; ComponentLink2URL: http://cp.literature.agilent.com/litweb/pdf/5988-6270EN.pdf
footprint 3.4X1.25X1.1 (SM Reverse Mount LED; 2 Flat Leads)
simulation model Agl_HSMSC265 (Diode)
signal-integrity model LED
pins: 1 A, 2 K

## HSMS-C280
designator D?
Miniature Chip LED, Red; LuminousIntensity: 2.5mcd (Minimum).; PCB_Layout: Complies with manufacturer's recommendation.; Published: 11-Dec-2002; DatasheetDocument: 7-Mar-2002; PackageDocument: 07-Mar-2002; PackageReference: 1.0X0.5X0.4; Publisher: Altium Limited; LED_Colour: Red; ComponentLink1Description: Manufacturer Link; ComponentLink1URL: http://www.agilent.com/; ComponentLink2Description: Datasheet; ComponentLink2URL: http://cp.literature.agilent.com/litweb/pdf/5988-5890EN.pdf
footprint 1.0X0.5X0.4 (SM LED; 2 Flat Leads)
simulation model Agl_HSMSC110 (Diode)
signal-integrity model LED
pins: 1 A, 2 K

## HSMS-C650
designator D?
SMT Top Mount Chip LED, Red; LuminousIntensity: 1.6mcd (Minimum).; PCB_Layout: Complies with manufacturer's recommendation.; Published: 11-Dec-2002; DatasheetDocument: 1-May-2002; PackageDocument: 26-Feb-2002; PackageReference: 3.2X1.6X1.1; Publisher: Altium Limited; LED_Colour: Red; ComponentLink1Description: Manufacturer Link; ComponentLink1URL: http://www.agilent.com/; ComponentLink2Description: Datasheet; ComponentLink2URL: http://cp.literature.agilent.com/litweb/pdf/5988-2709EN.pdf
footprint 3.2X1.6X1.1 (SM LED; 2 Flat Leads)
simulation model Agl_HSMSC650 (Diode)
signal-integrity model LED
pins: 1 A, 2 K

## HSMS-C660
designator D?
Right Angle SMT Chip LED, Red; LuminousIntensity: 1.6mcd (Minimum).; PCB_Layout: Complies with manufacturer's recommendation.; Published: 11-Dec-2002; DatasheetDocument: 19-Oct-2001; PackageDocument: 29-Oct-2001; PackageReference: 3.0X1.0X2.0W; Publisher: Altium Limited; LED_Colour: Red; ComponentLink1Description: Manufacturer Link; ComponentLink1URL: http://www.agilent.com/; ComponentLink2Description: Datasheet; ComponentLink2URL: http://cp.literature.agilent.com/litweb/pdf/5988-4446EN.pdf
footprint 3.0X1.0X2.0W (SM Right-Angle Mount LED; 3 Leads; Body 3.0 x 1.0 x 2.0 mm (LxWxH))
simulation model Agl_HSMSC650 (Diode)
pins: 1 A, 2 K, 3 Mount

## HSMS-C670
designator D?
SMT Top Mount Chip LED, Red; LuminousIntensity: 1.6mcd (Minimum).; PCB_Layout: Complies with manufacturer's recommendation.; Published: 11-Dec-2002; DatasheetDocument: 1-May-2002; PackageDocument: 01-May-2002; PackageReference: 2.0X1.25X1.1; Publisher: Altium Limited; LED_Colour: Red; ComponentLink1Description: Manufacturer Link; ComponentLink1URL: http://www.agilent.com/; ComponentLink2Description: Datasheet; ComponentLink2URL: http://cp.literature.agilent.com/litweb/pdf/5988-2709EN.pdf
footprint 2.0X1.25X1.1 (SM LED; 2 Flat Leads)
simulation model Agl_HSMSC650 (Diode)
signal-integrity model LED
pins: 1 A, 2 K

## HSMS-L640
designator D?
SMT Top Mount Chip LED, Red; LuminousIntensity: 2.5mcd (Minimum).; PCB_Layout: Complies with manufacturer's recommendation.; Published: 11-Dec-2002; DatasheetDocument: 3-May-2002; PackageDocument: 03-May-2002; PackageReference: 3.0X1.5X1.5; Publisher: Altium Limited; LED_Colour: Red; ComponentLink1Description: Manufacturer Link; ComponentLink1URL: http://www.agilent.com/; ComponentLink2Description: Datasheet; ComponentLink2URL: http://cp.literature.agilent.com/litweb/pdf/5988-6273EN.pdf
footprint 3.0X1.5X1.5 (SM LED; 2 Flat Leads)
simulation model Agl_HSMSC650 (Diode)
signal-integrity model LED
pins: 1 A, 2 K

## HSMT-C197
designator D?
Low Profile Chip LED, Red; LuminousIntensity: 15mcd (Minimum).; PCB_Layout: Complies with manufacturer's recommendation.; Published: 11-Dec-2002; DatasheetDocument: 27-Jan-2002; PackageDocument: 27-Jan-2002; PackageReference: 1.6X0.8X0.4; Publisher: Altium Limited; LED_Colour: Red; ComponentLink1Description: Manufacturer Link; ComponentLink1URL: http://www.agilent.com/; ComponentLink2Description: Datasheet; ComponentLink2URL: http://cp.literature.agilent.com/litweb/pdf/5988-5501EN.pdf
footprint 1.6X0.8X0.4 (SM LED; 2 Flat Leads)
simulation model Agl_HSMCC177 (Diode)
signal-integrity model LED
pins: 1 A, 2 K

## HSMU-A100-R00J1
designator D?
Surface Mount LED Indicator, Amber; LuminousIntensity: 100mcd (Minimum).; PCB_Layout: Complies with manufacturer's recommendation.; Published: 11-Dec-2002; DatasheetDocument: 16-Apr-2002; PackageDocument: 16-Apr-2002; PackageReference: 3.5X2.8X1.9; Publisher: Altium Limited; LED_Colour: Amber; ComponentLink1Description: Manufacturer Link; ComponentLink1URL: http://www.agilent.com/; ComponentLink2Description: Datasheet; ComponentLink2URL: http://cp.literature.agilent.com/litweb/pdf/5988-6546EN.pdf
footprint 3.5X2.8X1.9 (SM LED; 2 C-Bend Leads; Body 3.5 x 2.8 x 1.9 mm, inc leads (LxWxH typ))
simulation model Agl_HSMDC110 (Diode)
signal-integrity model LED
pins: 1 A, 2 K

## HSMU-C220
designator D?
High Performance Chip LED, Amber; LuminousIntensity: 100mcd (Minimum).; PCB_Layout: Complies with manufacturer's recommendation.; Published: 11-Dec-2002; DatasheetDocument: 30-Apr-2002; PackageDocument: 30-Apr-2002; PackageReference: 2.0X1.25X1.2; Publisher: Altium Limited; LED_Colour: Amber; ComponentLink1Description: Manufacturer Link; ComponentLink1URL: http://www.agilent.com/; ComponentLink2Description: Datasheet; ComponentLink2URL: http://cp.literature.agilent.com/litweb/pdf/5988-6549EN.pdf
footprint 2.0X1.25X1.2 (SM LED; 2 Flat Leads)
simulation model Agl_HSMUC220 (Diode)
signal-integrity model LED
pins: 1 A, 2 K

## HSMU-C540-H0001
designator D?
Top Mount TS AlInGaP Amber Oval Lens High Brightness; LuminousIntensity: 157mcd (Minimum).; PCB_Layout: Complies with manufacturer's recommendation.; Published: 11-Dec-2002; DatasheetDocument: 7-Mar-2002; PackageDocument: 30-Apr-2002; PackageReference: 2.0X1.25X1.2; Publisher: Altium Limited; LED_Colour: Amber; ComponentLink1Description: Manufacturer Link; ComponentLink1URL: http://www.agilent.com/; ComponentLink2Description: Datasheet; ComponentLink2URL: http://cp.literature.agilent.com/litweb/pdf/5988-5794EN.pdf
footprint 2.0X1.25X1.2 (SM LED; 2 Flat Leads)
simulation model Agl_HSMUC540 (Diode)
signal-integrity model LED
pins: 1 A, 2 K

## HSMY-A100-J00J1
designator D?
Surface Mount LED Indicator, Yellow; LuminousIntensity: 4mcd (Minimum).; PCB_Layout: Complies with manufacturer's recommendation.; Published: 11-Dec-2002; DatasheetDocument: 16-Apr-2002; PackageDocument: 16-Apr-2002; PackageReference: 3.5X2.8X1.9; Publisher: Altium Limited; LED_Colour: Yellow; ComponentLink1Description: Manufacturer Link; ComponentLink1URL: http://www.agilent.com/; ComponentLink2Description: Datasheet; ComponentLink2URL: http://cp.literature.agilent.com/litweb/pdf/5988-6546EN.pdf
footprint 3.5X2.8X1.9 (SM LED; 2 C-Bend Leads; Body 3.5 x 2.8 x 1.9 mm, inc leads (LxWxH typ))
simulation model Agl_HSMDC110 (Diode)
signal-integrity model LED
pins: 1 A, 2 K

## HSMY-C110
designator D?
Surface Mount Chip LED, Yellow; LuminousIntensity: 2.5mcd (Minimum).; PCB_Layout: Complies with manufacturer's recommendation.; Published: 11-Dec-2002; DatasheetDocument: 30-Apr-2002; PackageDocument: 11-Mar-2002; PackageReference: 3.2X1.0X1.5; Publisher: Altium Limited; LED_Colour: Yellow; ComponentLink1Description: Manufacturer Link; ComponentLink1URL: http://www.agilent.com/; ComponentLink2Description: Datasheet; ComponentLink2URL: http://cp.literature.agilent.com/litweb/pdf/5988-6271EN.pdf
footprint 3.2X1.0X1.5 (SM Right-Angle Mount LED; 3 Leads; Body 3.2 x 1.0 x 1.5 mm (LxWxH))
simulation model Agl_HSMYC110 (Diode)
pins: 1 A, 2 K, 3 Mount

## HSMY-C150
designator D?
Surface Mount Chip LED, Yellow; LuminousIntensity: 2.5mcd (Minimum).; PCB_Layout: Complies with manufacturer's recommendation.; Published: 11-Dec-2002; DatasheetDocument: 30-Apr-2002; PackageDocument: 26-Feb-2002; PackageReference: 3.2X1.6X1.1; Publisher: Altium Limited; LED_Colour: Yellow; ComponentLink1Description: Manufacturer Link; ComponentLink1URL: http://www.agilent.com/; ComponentLink2Description: Datasheet; ComponentLink2URL: http://cp.literature.agilent.com/litweb/pdf/5988-6271EN.pdf
footprint 3.2X1.6X1.1 (SM LED; 2 Flat Leads)
simulation model Agl_HSMYC110 (Diode)
signal-integrity model LED
pins: 1 A, 2 K

## HSMY-C170
designator D?
Surface Mount Chip LED, Yellow; LuminousIntensity: 2.5mcd (Minimum).; PCB_Layout: Complies with manufacturer's recommendation.; Published: 11-Dec-2002; DatasheetDocument: 30-Apr-2002; PackageDocument: 29-Oct-2001; PackageReference: 2.0X1.25X0.8; Publisher: Altium Limited; LED_Colour: Yellow; ComponentLink1Description: Manufacturer Link; ComponentLink1URL: http://www.agilent.com/; ComponentLink2Description: Datasheet; ComponentLink2URL: http://cp.literature.agilent.com/litweb/pdf/5988-6271EN.pdf
footprint 2.0X1.25X0.8 (SM LED; 2 Flat Leads)
simulation model Agl_HSMYC110 (Diode)
signal-integrity model LED
pins: 1 A, 2 K

## HSMY-C177
designator D?
Low Profile Chip LED, Yellow; LuminousIntensity: 2.5mcd (Minimum).; PCB_Layout: Complies with manufacturer's recommendation.; Published: 11-Dec-2002; DatasheetDocument: 27-Jan-2002; PackageDocument: 27-Jan-2002; PackageReference: 2.0X1.25X0.4; Publisher: Altium Limited; LED_Colour: Yellow; ComponentLink1Description: Manufacturer Link; ComponentLink1URL: http://www.agilent.com/; ComponentLink2Description: Datasheet; ComponentLink2URL: http://cp.literature.agilent.com/litweb/pdf/5988-5501EN.pdf
footprint 2.0X1.25X0.4 (SM LED; 2 Flat Leads)
simulation model Agl_HSMYC110 (Diode)
signal-integrity model LED
pins: 1 A, 2 K

## HSMY-C190
designator D?
Surface Mount Chip LED, Yellow; LuminousIntensity: 2.5mcd (Minimum).; PCB_Layout: Complies with manufacturer's recommendation.; Published: 11-Dec-2002; DatasheetDocument: 30-Apr-2002; PackageDocument: 11-Mar-2002; PackageReference: 1.6X0.8X0.8; Publisher: Altium Limited; LED_Colour: Yellow; ComponentLink1Description: Manufacturer Link; ComponentLink1URL: http://www.agilent.com/; ComponentLink2Description: Datasheet; ComponentLink2URL: http://cp.literature.agilent.com/litweb/pdf/5988-6271EN.pdf
footprint 1.6X0.8X0.8 (SM LED; 2 Flat Leads)
simulation model Agl_HSMYC110 (Diode)
signal-integrity model LED
pins: 1 A, 2 K

## HSMY-C191
designator D?
Low Profile Chip LED, Yellow; LuminousIntensity: 2.5mcd (Minimum).; PCB_Layout: Complies with manufacturer's recommendation.; Published: 11-Dec-2002; DatasheetDocument: 16-Apr-2002; PackageDocument: 11-Mar-2002; PackageReference: 1.6X0.8X0.6; Publisher: Altium Limited; LED_Colour: Yellow; ComponentLink1Description: Manufacturer Link; ComponentLink1URL: http://www.agilent.com/; ComponentLink2Description: Datasheet; ComponentLink2URL: http://cp.literature.agilent.com/litweb/pdf/5988-6172EN.pdf
footprint 1.6X0.8X0.6 (SM LED; 2 Flat Leads)
simulation model Agl_HSMYC110 (Diode)
signal-integrity model LED
pins: 1 A, 2 K

## HSMY-C197
designator D?
Low Profile Chip LED, Yellow; LuminousIntensity: 2.5mcd (Minimum).; PCB_Layout: Complies with manufacturer's recommendation.; Published: 11-Dec-2002; DatasheetDocument: 27-Jan-2002; PackageDocument: 27-Jan-2002; PackageReference: 1.6X0.8X0.4; Publisher: Altium Limited; LED_Colour: Yellow; ComponentLink1Description: Manufacturer Link; ComponentLink1URL: http://www.agilent.com/; ComponentLink2Description: Datasheet; ComponentLink2URL: http://cp.literature.agilent.com/litweb/pdf/5988-5501EN.pdf
footprint 1.6X0.8X0.4 (SM LED; 2 Flat Leads)
simulation model Agl_HSMYC110 (Diode)
signal-integrity model LED
pins: 1 A, 2 K

## HSMY-C220
designator D?
High Performance Chip LED, Yellow; LuminousIntensity: 6.3mcd (Minimum).; PCB_Layout: Complies with manufacturer's recommendation.; Published: 11-Dec-2002; DatasheetDocument: 30-Apr-2002; PackageDocument: 30-Apr-2002; PackageReference: 2.0X1.25X1.2; Publisher: Altium Limited; LED_Colour: Yellow; ComponentLink1Description: Manufacturer Link; ComponentLink1URL: http://www.agilent.com/; ComponentLink2Description: Datasheet; ComponentLink2URL: http://cp.literature.agilent.com/litweb/pdf/5988-6549EN.pdf
footprint 2.0X1.25X1.2 (SM LED; 2 Flat Leads)
simulation model Agl_HSMYC650 (Diode)
signal-integrity model LED
pins: 1 A, 2 K

## HSMY-C260
designator D?
Reverse Mount Chip LED, Yellow; LuminousIntensity: 2.5mcd (Minimum).; PCB_Layout: Complies with manufacturer's recommendation.; DrillSize: Nominal, Rounded to nearest 0.05mm; Published: 11-Dec-2002; DatasheetDocument: 15-Apr-2002; PackageDocument: 15-Apr-2002; PackageReference: 3.4X1.25X1.1; Publisher: Altium Limited; LED_Colour: Yellow; ComponentLink1Description: Manufacturer Link; ComponentLink1URL: http://www.agilent.com/; ComponentLink2Description: Datasheet; ComponentLink2URL: http://cp.literature.agilent.com/litweb/pdf/5988-6269EN.pdf
footprint 3.4X1.25X1.1 (SM Reverse Mount LED; 2 Flat Leads)
simulation model Agl_HSMYC260 (Diode)
signal-integrity model LED
pins: 1 A, 2 K

## HSMY-C265
designator D?
Reverse Mount Chip LED, Yellow; LuminousIntensity: 2.5mcd (Minimum).; PCB_Layout: Complies with manufacturer's recommendation.; DrillSize: Nominal, Rounded to nearest 0.05mm; Published: 11-Dec-2002; DatasheetDocument: 18-Apr-2002; PackageDocument: 15-Apr-2002; PackageReference: 3.4X1.25X1.1; Publisher: Altium Limited; LED_Colour: Yellow; ComponentLink1Description: Manufacturer Link; ComponentLink1URL: http://www.agilent.com/; ComponentLink2Description: Datasheet; ComponentLink2URL: http://cp.literature.agilent.com/litweb/pdf/5988-6270EN.pdf
footprint 3.4X1.25X1.1 (SM Reverse Mount LED; 2 Flat Leads)
simulation model Agl_HSMYC260 (Diode)
signal-integrity model LED
pins: 1 A, 2 K